# EAGLE library part FFC-21 (library crayon)
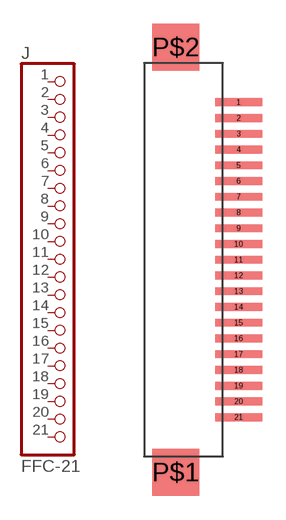
[diagram p1: symbol with the pads of FFC-21; footprint FFC-21]

Designator prefix J

## FFC-21  [FFC-21]
1  1  pas
2  2  pas
3  3  pas
4  4  pas
5  5  pas
6  6  pas
7  7  pas
8  8  pas
9  9  pas
10  10  pas
11  11  pas
12  12  pas
13  13  pas
14  14  pas
15  15  pas
16  16  pas
17  17  pas
18  18  pas
19  19  pas
20  20  pas
21  21  pas

## Footprint FFC-21 (pad centres in mm)
smd 3 x 0.5: 1 4,9.5; 2 4,8.5; 3 4,7.5; 4 4,6.5; 5 4,5.5; 6 4,4.5; 7 4,3.5; 8 4,2.5; 9 4,1.5; 10 4,0.5; 11 4,-0.5; 12 4,-1.5; 13 4,-2.5; 14 4,-3.5; 15 4,-4.5; 16 4,-5.5; 17 4,-6.5; 18 4,-7.5; 19 4,-8.5; 20 4,-9.5; 21 4,-10.5
smd 3 x 3: P$1 0,-14; P$2 0,13